# Altium schematic symbol library AP2127K-3.3TRG1.SchLib: 1 symbol
Pins are listed as number, name and electrical type; pins without a type are passive.

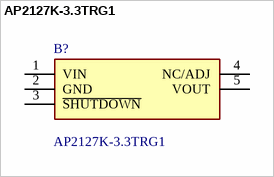
[diagram p0: symbol AP2127K-3.3TRG1]

## AP2127K-3.3TRG1
designator B?
DiodesZetex AP2127K-3.3TRG1, LDO Regulator, 3.3 V, +/-2% 5-Pin, SOT-23; Manufacturer_Name: Diodes Incorporated; Geometry.Height: 1.45mm; Manufacturer_Part_Number: AP2127K-3.3TRG1; Mouser Part Number: 621-AP2127K-3.3TRG1; Mouser Price/Stock: https://www.mouser.co.uk/ProductDetail/Diodes-Incorporated/AP2127K-3.3TRG1?qs=x6A8l6qLYDCeAxisWuFs5g%3D%3D; Arrow Part Number: AP2127K-3.3TRG1; Arrow Price/Stock: https://www.arrow.com/en/products/ap2127k-3.3trg1/diodes-incorporated?utm_currency=USD&region=nac; Datasheet Link: https://www.diodes.com//assets/Datasheets/AP2127.pdf
footprint SOT95P282X145-5N
pins: 1 VIN, 2 GND, 3 ~{SHUTDOWN}, 4 NC/ADJ, 5 VOUT